# Altium footprint library PUSB3AB4Z.PcbLib: 1 footprints
Each footprint in its own frame and in the unit in brackets; x right, y up, seen from the top. Pads: shape width x height; smd on the part's side, far side on the other; paste and mask are expansions set on the pad; w line width, h text height; cw(c..) or ccw(c..) is an arc to the next point about the centre after c.
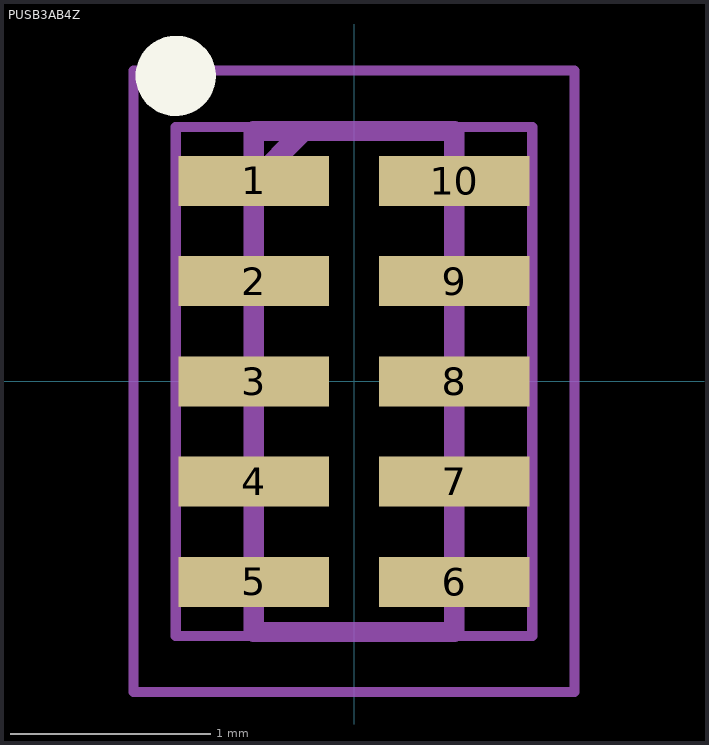
[diagram p0: the footprint, top view; thin cyan lines are the x and y axes]

## PUSB3AB4Z [mm]
pads (10):
  rect 0.75x0.25 smd: 1(-0.5,1) 2(-0.5,0.5) 3(-0.5,0) 4(-0.5,-0.5) 5(-0.5,-1) 6(0.5,-1) 7(0.5,-0.5) 8(0.5,0) 9(0.5,0.5) 10(0.5,1)
Top Overlay:
  circle w0.2: c-0.889,1.524 r0.1
Top Courtyard:
  lines w0.05: -0.889,-1.27 0.889,-1.27 0.889,1.27 -0.889,1.27 -0.889,-1.27
Top Assembly:
  lines w0.1: -0.5,1 -0.25,1.25 ; -0.5,-1.25 -0.5,1.25 0.5,1.25 0.5,-1.25 -0.5,-1.25
Mechanical 20:
  lines w0.05: -1.1,-1.55 1.1,-1.55 1.1,1.55 -1.1,1.55 -1.1,-1.55
3D body "PUSB3AB4Z.STEP": height 0.5, standoff 0, extent -0.5,-1.25 0.5,1.25